# Altium footprint library PCB1.PcbLib: 22 footprints (part 2 of 2)
Each footprint in its own frame and in the unit in brackets; x right, y up, seen from the top. Pads: shape width x height; smd on the part's side, far side on the other; paste and mask are expansions set on the pad; w line width, h text height; cw(c..) or ccw(c..) is an arc to the next point about the centre after c.
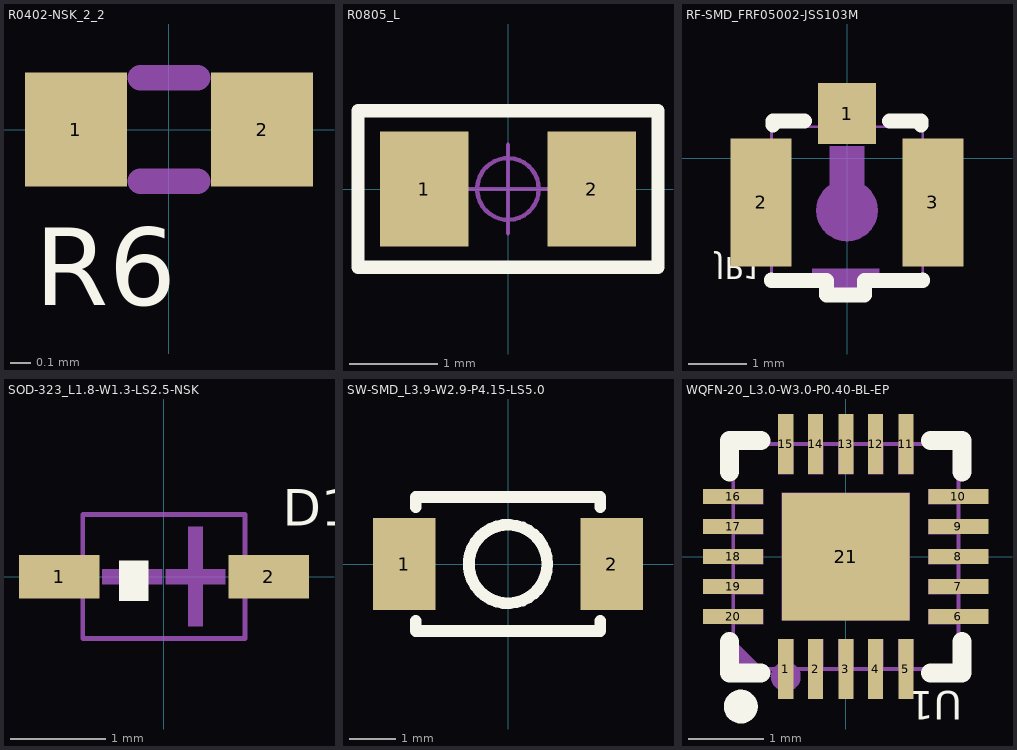
[diagram p1: the footprints below, top view; thin cyan lines are the x and y axes]

## R0402-NSK_2_2 [mil]
pads (2):
  rect 19.68x22 smd paste+0 mask+2: 1(-18,0) 2(18,0)
Top Overlay:
  text "R6" at -26,-34 h15
Mechanical 6:
  lines w5: -5.5,-10 5.5,-10 ; -5.5,10 5.5,10

## R0805_L [mm] "1/8W贴片电阻"
pads (2):
  rect 1x1.3 smd: 1(-0.95,0) 2(0.95,0)
Top Overlay:
  lines w0.152: -1.702,-0.889 -1.702,0.889 1.702,0.889 1.702,-0.889 -1.702,-0.889
Mechanical 15:
  circle w0.05: c0,0 r0.35
  lines w0.05: -0.5,0 0.5,0 ; 0,-0.5 0,0.5
3D body: height 0.5, standoff 0, extent -1,-0.625 1,0.625

## RF-SMD_FRF05002-JSS103M [mm]
pads (3):
  rect 1x1.05 smd paste+0 mask+0.05: 1(0,0.762)
  rect 1.05x2.2 smd paste+0 mask+0.05: 2(-1.475,-0.762) 3(1.475,-0.762)
Top Overlay:
  lines w0.254: -1.3,-2.094 -1.3,-2.1 -0.35,-2.1 -0.35,-2.35 0.3,-2.35 0.3,-2.1 1.3,-2.1 1.3,-2.094 ; -1.27,0.569 -1.27,0.635 -0.731,0.635 ; 0.731,0.635 1.27,0.635 1.27,0.569
  text "JP1" at -2.252,-1.7 h0.38
Mechanical 6:
  region: 0.033,-1.426 0,-1.427 -0.033,-1.426 -0.066,-1.423 -0.099,-1.418 -0.131,-1.41 -0.163,-1.401 -0.194,-1.39 -0.224,-1.377 -0.254,-1.362 -0.282,-1.345 -0.31,-1.326 -0.336,-1.306 -0.361,-1.284 -0.384,-1.261 -0.406,-1.236 -0.426,-1.21 -0.445,-1.182 -0.462,-1.154 -0.477,-1.124 -0.49,-1.094 -0.501,-1.063 -0.51,-1.031 -0.518,-0.999 -0.523,-0.966 -0.526,-0.933 -0.527,-0.9 -0.526,-0.867 -0.523,-0.834 -0.518,-0.801 -0.51,-0.769 -0.501,-0.737 -0.49,-0.706 -0.477,-0.676 -0.462,-0.646 -0.445,-0.618 -0.426,-0.59 -0.406,-0.564 -0.384,-0.539 -0.361,-0.516 -0.336,-0.494 -0.31,-0.474 -0.3,-0.467 -0.3,0.2 0.3,0.2 0.3,-0.467 0.31,-0.474 0.336,-0.494 0.361,-0.516 0.384,-0.539 0.406,-0.564 0.426,-0.59 0.445,-0.618 0.462,-0.646 0.477,-0.676 0.49,-0.706 0.501,-0.737 0.51,-0.769 0.518,-0.801 0.523,-0.834 0.526,-0.867 0.527,-0.9 0.526,-0.933 0.523,-0.966 0.518,-0.999 0.51,-1.031 0.501,-1.063 0.49,-1.094 0.477,-1.124 0.462,-1.154 0.445,-1.182 0.426,-1.21 0.406,-1.236 0.384,-1.261 0.361,-1.284 0.336,-1.306 0.31,-1.326 0.282,-1.345 0.254,-1.362 0.224,-1.377 0.194,-1.39 0.163,-1.401 0.131,-1.41 0.099,-1.418 0.066,-1.423
  region: -0.3,-2.05 -0.3,-2.3 0.3,-2.3 0.3,-2.05 0.55,-2.05 0.55,-1.9 -0.6,-1.9 -0.6,-2.05
Mechanical 15:
  region: -0.3,0.79 -0.3,0.3 0.3,0.3 0.3,0.79
  region: 1.1,-1.662 1.5,-1.662 1.5,0.138 1.1,0.138
  region: -1.5,-1.662 -1.1,-1.662 -1.1,0.138 -1.5,0.138
  lines w0.051: -1.3,-2.062 -0.301,-2.062 -0.3,-2.313 0.301,-2.313 0.3,-2.062 1.3,-2.062 1.3,0.538 -1.3,0.538 -1.3,-2.062

## SOD-323_L1.8-W1.3-LS2.5-NSK [mil]
pads (2):
  rect 33.3x17.9 smd paste+0 mask+2: 1(-43.2,0) 2(43.2,0)
Top Overlay:
  region: -6.5,6.6 -6.5,-10 -18.5,-10 -18.5,6.6
  text "D1" at 49,21 h15
Mechanical 6:
  region: 16.1,20.5 16.1,-20.5 10,-20.5 10,20.5
  region: 25.4,3.1 25.4,-3.1 0.8,-3.1 0.8,3.1
  region: -25.4,3.1 -25.4,-3.1 -0.8,-3.1 -0.8,3.1
Mechanical 15:
  region: 49.2,6.3 49.2,-6.3 37.4,-6.3 37.4,6.3
  region: 37.8,6.3 37.8,-6.3 33.1,-6.3 33.1,6.3
  region: -37.4,6.3 -37.4,-6.3 -49.2,-6.3 -49.2,6.3
  region: -33.1,6.3 -33.1,-6.3 -37.8,-6.3 -37.8,6.3
  lines w2: -33.5,-25.6 -33.5,25.6 33.5,25.6 33.5,-25.6 -33.5,-25.6

## SW-SMD_L3.9-W2.9-P4.15-LS5.0 [mm]
pads (2):
  rect 1.35x2 smd paste+0 mask+0.051: 1(-2.25,0) 2(2.25,0)
Top Overlay:
  circle w0.254: c0,0 r0.85
  lines w0.254: -2,-1.231 -2,-1.45 2,-1.45 2,-1.231 ; -2,1.231 -2,1.45 2,1.45 2,1.231

## WQFN-20_L3.0-W3.0-P0.40-BL-EP [mil]
pads (21):
  rect 7.9x31.5 smd paste+0 mask+2: 1(-31.5,-59.1) 2(-15.8,-59.1) 3(0,-59.1) 4(15.7,-59.1) 5(31.5,-59.1) 11(31.5,59.1) 12(15.7,59.1) 13(0,59.1) 14(-15.8,59.1) 15(-31.5,59.1)
  rect 31.5x7.9 smd paste+0 mask+2: 6(59.1,-31.5) 7(59.1,-15.7) 8(59.1,0) 9(59.1,15.7) 10(59.1,31.5) 16(-59.1,31.5) 17(-59.1,15.8) 18(-59.1,0) 19(-59.1,-15.7) 20(-59.1,-31.5)
  rect 66.9x66.9 smd paste+0 mask+2: 21(0,0)
Top Overlay:
  circle w10: c-55.1,-78.7 r3.9
  lines w10: -61,-44.5 -61,-61 -44.5,-61 ; -61,44.5 -61,61 -44.5,61 ; 44.5,-61 61,-61 61,-44.5 ; 44.5,61 61,61 61,44.5
  text "U1" at 61.12,-70.57 h15
Mechanical 6:
  circle w7.9: c-31.5,-63 r3.9
  region: -63,-63 -63,-39.4 -39.4,-63
Mechanical 15:
  region: -59.1,-35.4 -59.1,-27.6 -43.3,-27.6 -43.3,-35.4
  region: -59.1,-19.7 -59.1,-11.8 -43.3,-11.8 -43.3,-19.7
  region: -59.1,-3.9 -59.1,3.9 -43.3,3.9 -43.3,-3.9
  region: -59.1,11.8 -59.1,19.7 -43.3,19.7 -43.3,11.8
  region: -59.1,27.6 -59.1,35.4 -43.3,35.4 -43.3,27.6
  region: -27.6,43.3 -35.4,43.3 -35.4,59.1 -27.6,59.1
  region: -11.8,43.3 -19.7,43.3 -19.7,59.1 -11.8,59.1
  region: 3.9,43.3 -3.9,43.3 -3.9,59.1 3.9,59.1
  region: 19.7,43.3 11.8,43.3 11.8,59.1 19.7,59.1
  region: 35.4,43.3 27.6,43.3 27.6,59.1 35.4,59.1
  region: 59.1,35.4 59.1,27.6 43.3,27.6 43.3,35.4
  region: 59.1,19.7 59.1,11.8 43.3,11.8 43.3,19.7
  region: 59.1,3.9 59.1,-3.9 43.3,-3.9 43.3,3.9
  region: 59.1,-11.8 59.1,-19.7 43.3,-19.7 43.3,-11.8
  region: 59.1,-27.6 59.1,-35.4 43.3,-35.4 43.3,-27.6
  region: 35.4,-59 27.6,-59 27.6,-43.3 35.4,-43.3
  region: 19.7,-59 11.8,-59 11.8,-43.3 19.7,-43.3
  region: 3.9,-59 -3.9,-59 -3.9,-43.3 3.9,-43.3
  region: -11.8,-59 -19.7,-59 -19.7,-43.3 -11.8,-43.3
  region: -27.6,-59 -35.4,-59 -35.4,-43.3 -27.6,-43.3
  region: -33.5,-33.5 -33.5,33.5 33.5,33.5 33.5,-33.5
  lines w2: -59.1,-59 -59.1,59.1 59.1,59.1 59.1,-59 -59.1,-59